# Altium footprint library NEW.PcbLib: 110 footprints (part 7 of 7)
Each footprint in its own frame and in the unit in brackets; x right, y up, seen from the top. Pads: shape width x height; smd on the part's side, far side on the other; paste and mask are expansions set on the pad; w line width, h text height; cw(c..) or ccw(c..) is an arc to the next point about the centre after c.
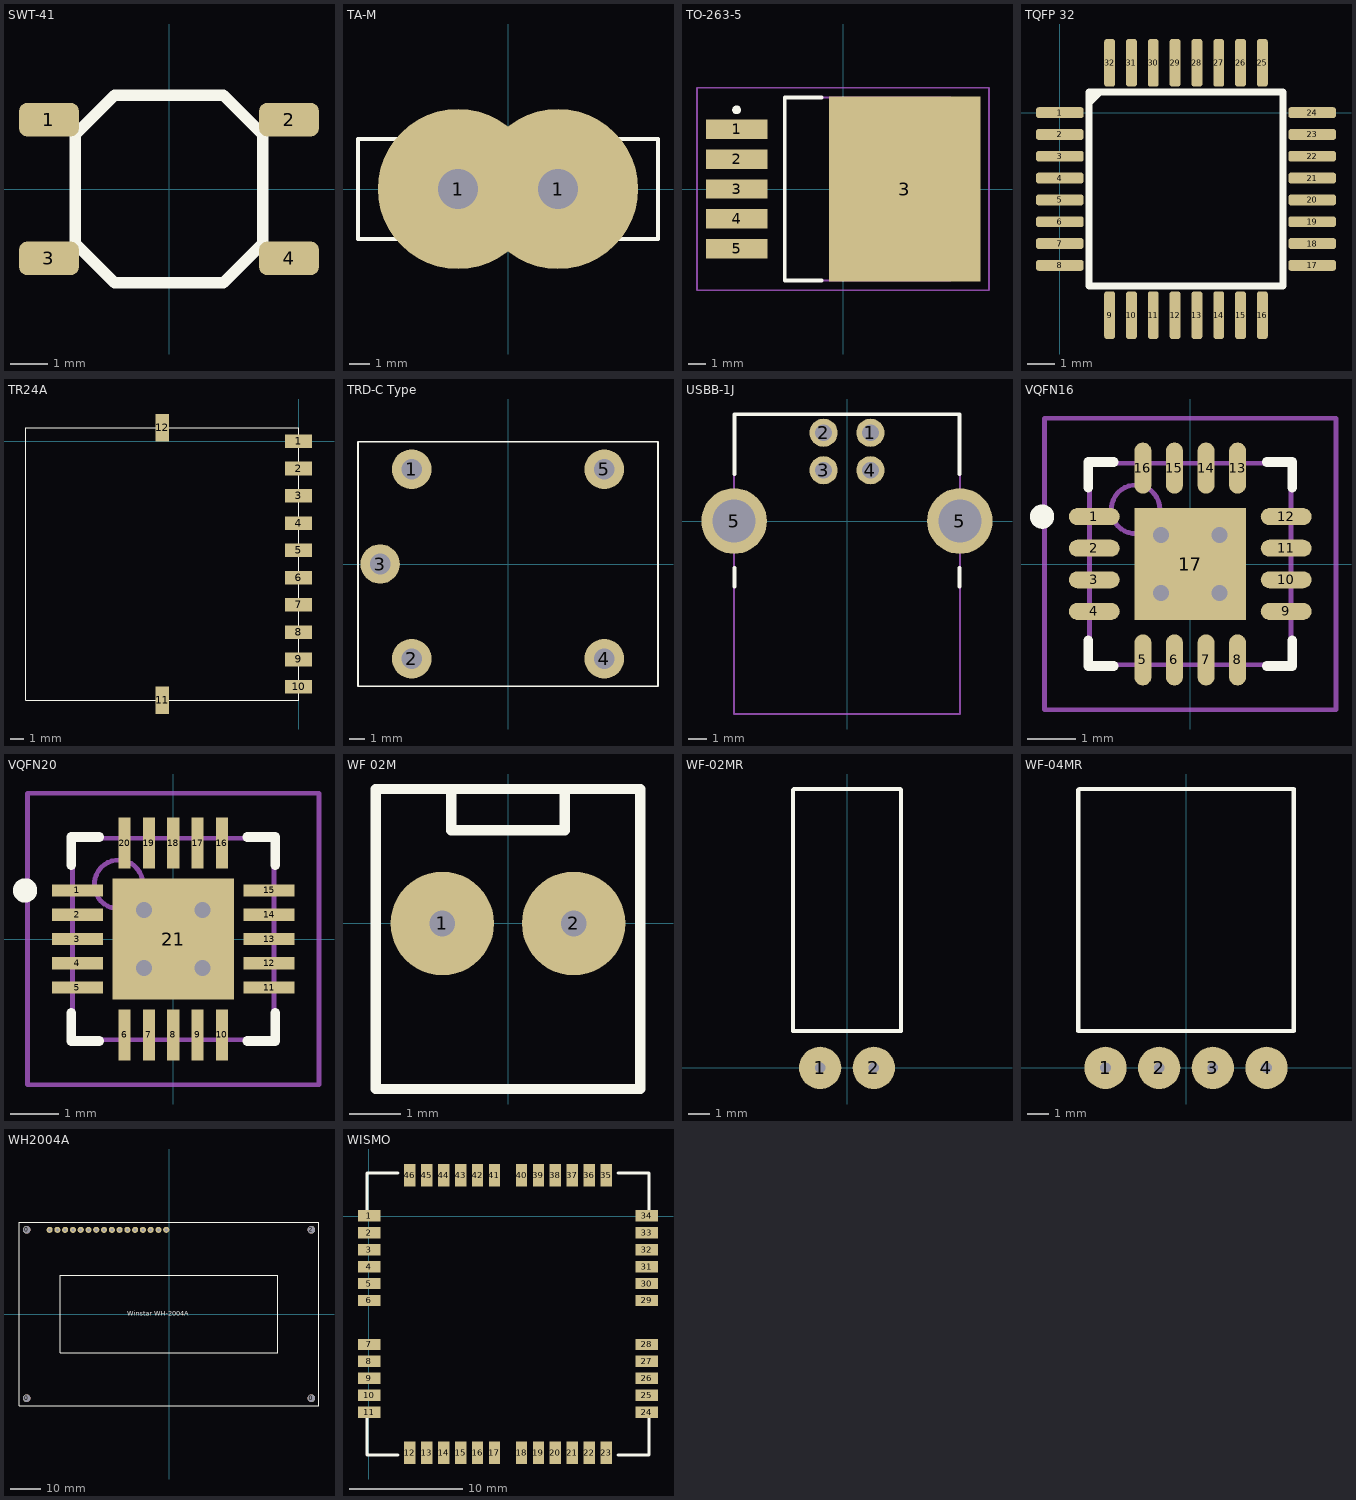
[diagram p6: the footprints below, top view; thin cyan lines are the x and y axes]

## SWT-41 [mm]
pads (4):
  rrect50% 1.6x0.9 smd: 1(-3.2,1.85) 2(3.2,1.85) 3(-3.2,-1.85) 4(3.2,-1.85)
Top Overlay:
  lines w0.3: -2.5,-1.45 -1.45,-2.5 1.45,-2.5 2.5,-1.45 2.5,1.45 1.45,2.5 -1.45,2.5 -2.5,1.45 -2.5,-1.45

## TA-M [mm]
height 9.2
pads (2):
  round 8 hole 2: 1(-2.5,0) 1(2.5,0)
Top Overlay:
  lines w0.2: -7.5,-2.5 -7.5,2.5 7.5,2.5 7.5,-2.5 -7.5,-2.5

## TO-263-5 [mm]
height 5
pads (6):
  rect 3.5x1.1 smd: 1(-6.05,3.4) 2(-6.05,1.7) 3(-6.05,0) 4(-6.05,-1.7) 5(-6.05,-3.4)
  rect 8.6x10.5 smd: 3(3.5,0)
Top Overlay:
  circle w0.25: c-6.05,4.5 r0.125
  lines w0.2: -1.2,-5.2 -3.3,-5.2 -3.3,5.2 -1.2,5.2
Mechanical 13:
  lines w0.1: -3.3,-5.2 6.1,-5.2 6.1,5.2 -3.3,5.2 -3.3,-5.2
Mechanical 15:
  lines w0.1: -0.5,0 0.5,0 ; 0,-0.5 0,0.5 ; -8.3,-5.75 8.3,-5.75 8.3,5.75 -8.3,5.75 -8.3,-5.75
3D body: height 4.65, standoff 0, extent -3.3,-5.2 6.1,5.2

## TQFP 32 [mm]
pads (32):
  rrect50% 1.75x0.4 smd: 1(0,0) 2(0,-0.8) 3(0,-1.6) 4(0,-2.4) 5(0,-3.2) 6(0,-4) 7(0,-4.8) 8(0,-5.6) 17(9.25,-5.6) 18(9.25,-4.8) 19(9.25,-4) 20(9.25,-3.2) 21(9.25,-2.4) 22(9.25,-1.6) 23(9.25,-0.8) 24(9.25,0)
  rrect50% 0.4x1.75 smd: 9(1.825,-7.425) 10(2.625,-7.425) 11(3.425,-7.425) 12(4.225,-7.425) 13(5.025,-7.425) 14(5.825,-7.425) 15(6.625,-7.425) 16(7.425,-7.425) 25(7.425,1.825) 26(6.625,1.825) 27(5.825,1.825) 28(5.025,1.825) 29(4.225,1.825) 30(3.425,1.825) 31(2.625,1.825) 32(1.825,1.825)
Top Overlay:
  lines w0.254: 1.075,0.35 1.475,0.75 ; 1.075,-6.35 8.175,-6.35 8.175,0.75 1.075,0.75 1.075,-6.35

## TR24A [mm]
pads (12):
  rect 2x1 smd: 1(0,0) 2(0,-2) 3(0,-4) 4(0,-6) 5(0,-8) 6(0,-10) 7(0,-12) 8(0,-14) 9(0,-16) 10(0,-18)
  rect 1x2 smd: 11(-10,-19) 12(-10,1)
Top Overlay:
  lines w0.05: -20,-19 -20,1 0,1 0,-19 -20,-19

## TRD-C Type [mm]
height 15
pads (5):
  round 2.5 hole 1.3: 1(-6.1,6) 2(-6.1,-6) 3(-8.1,0) 4(6.1,-6) 5(6.1,6)
Top Overlay:
  lines w0.1: -9.5,-7.75 9.5,-7.75 9.5,7.75 -9.5,7.75 -9.5,-7.75

## USBB-1J [mm] "USB-B Female Connector"
height 11.2
pads (6):
  round 1.5 hole 0.9: 1(1.25,4.71) 2(-1.25,4.71) 3(-1.25,2.71) 4(1.25,2.71)
  round 3.5 hole 2.3: 5(-6.02,0) 5(6.02,0)
Top Overlay:
  lines w0.2: -6,-3.5 -6,-2.5 ; -6,2.5 -6,5.7 6,5.7 6,2.5 ; 6,-3.5 6,-2.5
Mechanical 15:
  lines w0.1: -6.02,-10.29 6.02,-10.29 6.02,5.71 -6.02,5.71 -6.02,-10.29

## VQFN16 [mm]
height 1
pads (17):
  oval 1.05x0.35 smd: 1(-1.975,0.975) 2(-1.975,0.325) 3(-1.975,-0.325) 4(-1.975,-0.975) 9(1.975,-0.975) 10(1.975,-0.325) 11(1.975,0.325) 12(1.975,0.975)
  oval 0.35x1.05 smd: 5(-0.975,-1.975) 6(-0.325,-1.975) 7(0.325,-1.975) 8(0.975,-1.975) 13(0.975,1.975) 14(0.325,1.975) 15(-0.325,1.975) 16(-0.975,1.975)
  rect 2.3x2.3 smd: 17(0,0)
via 0.6,-0.6 diameter 0.66 hole 0.33
via -0.6,-0.6 diameter 0.66 hole 0.33
via 0.6,0.6 diameter 0.66 hole 0.33
via -0.6,0.6 diameter 0.66 hole 0.33
Top Overlay:
  circle w0.25: c-3.05,0.975 r0.125
  lines w0.2: -2.1,-1.575 -2.1,-2.1 -1.575,-2.1 ; -2.1,1.575 -2.1,2.1 -1.575,2.1 ; 1.575,-2.1 2.1,-2.1 2.1,-1.575 ; 1.575,2.1 2.1,2.1 2.1,1.575
Mechanical 13:
  circle w0.1: c-1.125,1.125 r0.5
  lines w0.1: -2.075,-2.075 2.075,-2.075 2.075,2.075 -2.075,2.075 -2.075,-2.075
Mechanical 15:
  lines w0.1: -0.5,0 0.5,0 ; 0,-0.5 0,0.5 ; -3,-3 3,-3 3,3 -3,3 -3,-3
3D body: height 1, standoff 0.08, extent -2.075,-2.075 2.075,2.075

## VQFN20 [mm] "QFN, 20-Leads, Body 4,2x4,2mm (max), Pitch 0,50mm, IPC Low Density"
height 0.8
pads (21):
  rect 1.05x0.25 smd: 1(-1.975,1) 2(-1.975,0.5) 3(-1.975,0) 4(-1.975,-0.5) 5(-1.975,-1) 11(1.975,-1) 12(1.975,-0.5) 13(1.975,0) 14(1.975,0.5) 15(1.975,1)
  rect 0.25x1.05 smd: 6(-1,-1.975) 7(-0.5,-1.975) 8(0,-1.975) 9(0.5,-1.975) 10(1,-1.975) 16(1,1.975) 17(0.5,1.975) 18(0,1.975) 19(-0.5,1.975) 20(-1,1.975)
  rect 2.5x2.5 smd: 21(0,0)
via -0.6,0.6 diameter 0.66 hole 0.33
via 0.6,0.6 diameter 0.66 hole 0.33
via -0.6,-0.6 diameter 0.66 hole 0.33
via 0.6,-0.6 diameter 0.66 hole 0.33
Top Overlay:
  circle w0.25: c-3.05,1 r0.125
  lines w0.2: -2.1,-1.525 -2.1,-2.1 -1.525,-2.1 ; -2.1,1.525 -2.1,2.1 -1.525,2.1 ; 1.525,-2.1 2.1,-2.1 2.1,-1.525 ; 1.525,2.1 2.1,2.1 2.1,1.525
Mechanical 13:
  circle w0.1: c-1.125,1.125 r0.5
  lines w0.1: -2.075,-2.075 -2.075,2.075 2.075,2.075 2.075,-2.075 -2.075,-2.075
Mechanical 15:
  lines w0.1: -0.5,0 0.5,0 ; 0,-0.5 0,0.5 ; -3,-3 -3,3 3,3 3,-3 -3,-3
3D body: height 0.8, standoff 0.01, extent -2.075,-2.075 2.075,2.075

## WF 02M [mm]
height 11.5
pads (2):
  round 2 hole 0.5 unplated: 1(-1.27,0) 2(1.27,0)
Top Overlay:
  lines w0.2: -1.1,2.6 -1.1,1.8 1.1,1.8 1.1,2.6 ; -2.56,-3.2 -2.56,2.6 2.56,2.6 2.56,-3.2 -2.56,-3.2

## WF-02MR [mm]
height 5.8
pads (2):
  round 2 hole 0.5: 1(-1.27,0) 2(1.27,0)
Top Overlay:
  lines w0.2: -2.56,1.75 -2.56,13.15 -2.51,13.2 2.52,13.2 2.56,13.16 2.56,1.75 -2.56,1.75

## WF-04MR [mm]
height 5.8
pads (4):
  round 2 hole 0.5: 1(-3.81,0) 2(-1.27,0) 3(1.27,0) 4(3.81,0)
Top Overlay:
  lines w0.2: -5.1,1.75 -5.1,13.15 -5.05,13.2 5.1,13.2 5.1,1.75 -5.1,1.75

## WH2004A [mm]
height 13.6
pads (20):
  round 2.5 hole 2.5 unplated: 0(-46.5,-27.5) 0(-46.5,27.5) 0(46.5,-27.5) 2(46.5,27.5)
  round 2 hole 1 unplated: 1(-39,27.5) 2(-36.46,27.5) 3(-33.92,27.5) 4(-31.38,27.5) 5(-28.84,27.5) 6(-26.3,27.5) 7(-23.76,27.5) 8(-21.22,27.5) 9(-18.68,27.5) 10(-16.14,27.5) 11(-13.6,27.5) 12(-11.06,27.5) 13(-8.52,27.5) 14(-5.98,27.5) 15(-3.44,27.5) 16(-0.9,27.5)
Top Overlay:
  lines w0.2: -49,-30 -49,30 49,30 49,-30 -49,-30 ; -35.5,-12.6 35.5,-12.6 35.5,12.6 -35.5,12.6 -35.5,-12.6
  text "Winstar WH-2004A" at -13.6,-0.6 h1.52

## WISMO [mm]
pads (46):
  rect 2x1 smd: 1(0.04,0.02) 2(0.04,-1.48) 3(0.04,-2.98) 4(0.04,-4.48) 5(0.04,-5.98) 6(0.04,-7.48) 7(0.04,-11.38) 8(0.04,-12.88) 9(0.04,-14.38) 10(0.04,-15.88) 11(0.04,-17.38) 24(24.64,-17.38) 25(24.64,-15.88) 26(24.64,-14.38) 27(24.64,-12.88) 28(24.64,-11.38) 29(24.64,-7.48) 30(24.64,-5.98) 31(24.64,-4.48) 32(24.64,-2.98) 33(24.64,-1.48) 34(24.64,0.02)
  rect 1x2 smd: 12(3.64,-20.98) 13(5.14,-20.98) 14(6.64,-20.98) 15(8.14,-20.98) 16(9.64,-20.98) 17(11.14,-20.98) 18(13.54,-20.98) 19(15.04,-20.98) 20(16.54,-20.98) 21(18.04,-20.98) 22(19.54,-20.98) 23(21.04,-20.98) 35(21.04,3.62) 36(19.54,3.62) 37(18.04,3.62) 38(16.54,3.62) 39(15.04,3.62) 40(13.54,3.62) 41(11.14,3.62) 42(9.64,3.62) 43(8.14,3.62) 44(6.64,3.62) 45(5.14,3.62) 46(3.64,3.62)
Top Overlay:
  lines w0.254: -0.16,-17.68 -0.16,-21.18 2.59,-21.18 ; -0.16,0.32 -0.16,3.82 2.59,3.82 ; 22.09,-21.18 24.84,-21.18 24.84,-17.68 ; 22.09,3.82 24.84,3.82 24.84,0.32
3D body: height 2.8, standoff 0, extent -0.1,-21.2 24.8,3.8